# Altium schematic symbol library Protection Fuses PTC.SchLib: 5 symbols
Pins are listed as number, name and electrical type; pins without a type are passive.

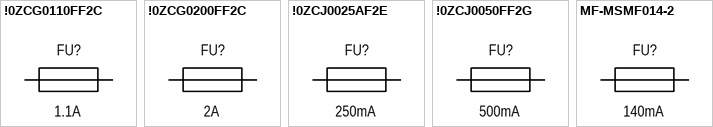
[diagram p0: symbols !0ZCG0110FF2C to MF-MSMF014-2]

## !0ZCG0110FF2C
designator FU?, comment 1.1A
PTC Resettable Fuse 1.1A 1812(4532); Manufacturer: Bel; Part name: 0ZCG0110FF2C; Group: Fuses; Package: 1812 (4532); Value: 1.1A
footprint RFUSE4532N (SMT Low Profile PTC Resettable Fuses, Body 4.5x3.2mm)
pins: 1, 2

## !0ZCG0200FF2C
designator FU?, comment 2A
PTC Resettable Fuse 2A 1812(4532); Manufacturer: Bel; Part name: 0ZCG0200FF2C; Group: Fuses; Package: 1812 (4532); Value: 2A
footprint RFUSE4532N (SMT Low Profile PTC Resettable Fuses, Body 4.5x3.2mm)
pins: 1, 2

## !0ZCJ0025AF2E
designator FU?, comment 250mA
PTC Resettable Fuse 250mA 1206(3216); Manufacturer: Bel; Part name: 0ZCJ0025AF2E; Group: Fuses; Package: 1206 (3216); Value: 250mA
footprint RFUSE3216N (SMT Low Profile PTC Resettable Fuses, Body 3.2x1.6mm)
pins: 1, 2

## !0ZCJ0050FF2G
designator FU?, comment 500mA
PTC Resettable Fuse 500mA 1206(3216); Manufacturer: Bel; Part name: 0ZCJ0050FF2G; Group: Fuses; Package: 1206 (3216); Value: 500mA
footprint RFUSE3216N (SMT Low Profile PTC Resettable Fuses, Body 3.2x1.6mm)
pins: 1, 2

## MF-MSMF014-2
designator FU?, comment 140mA
PTC Resettable Fuse 1.1A 1812(4532); Manufacturer: Bourns; Part name: MF-MSMF014-2; Group: Protection; Component: Fuse PTC; Dimention: 4.55mm x 3.24mm; Voltage: 60V; Current trip: 140mA; Package: 1812 (4532); Height: 1.10mm; Operating temperature: -40°C +85°C
footprint RFUSE4532N (SMT Low Profile PTC Resettable Fuses, Body 4.5x3.2mm)
pins: 1, 2